# EAGLE library part USB-MINIB (library STM32-PROX)
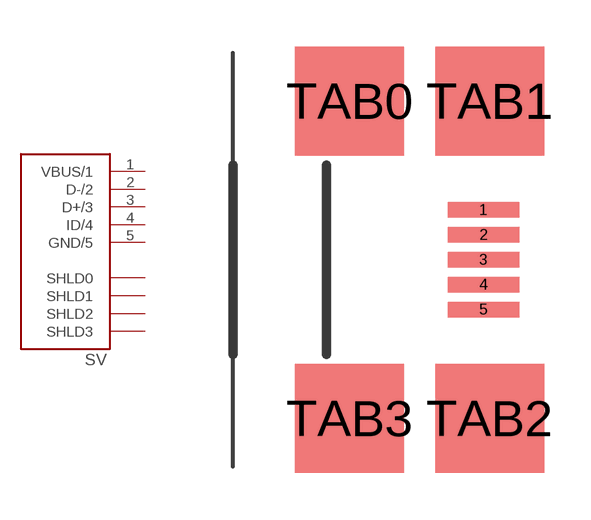
[diagram p14: symbol with the pads of USB-MINIB-SMD; footprint USB-MINIB-SMD]

Designator prefix SV

## USB-MINIB  [USB-MINIB-SMD]
1  VBUS/1
2  D-/2
3  D+/3
4  ID/4
5  GND/5
TAB0  SHLD0
TAB1  SHLD1
TAB2  SHLD2
TAB3  SHLD3

## Footprint USB-MINIB-SMD (pad centres in mm)
smd 2.3 x 0.5: 1 2,0.4; 2 2,-0.4; 3 2,-1.2; 4 2,-2; 5 2,-2.8
smd 3.5 x 3.5: TAB0 -2.3,3.9; TAB1 2.2,3.9; TAB2 2.2,-6.3; TAB3 -2.3,-6.3